# EAGLE library part FT801 (library ftdichip)
IC TFT LCD CONTROLLER 48VQFN
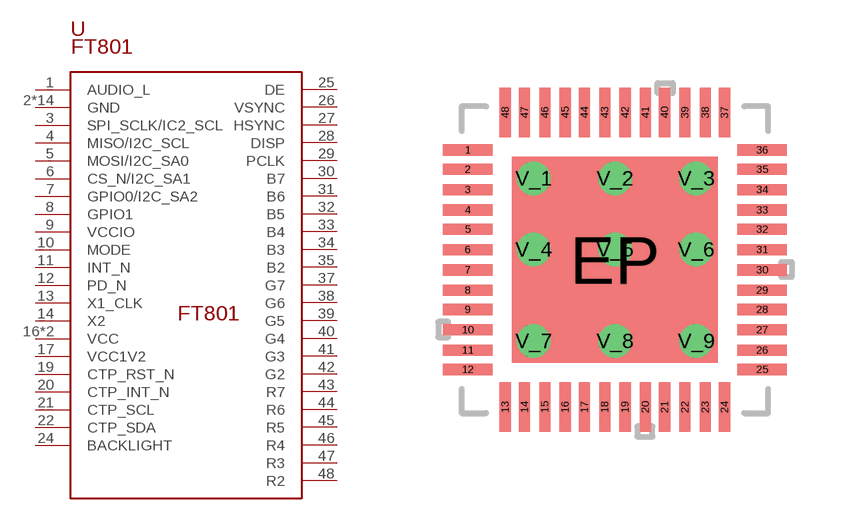
[diagram p4: symbol with the pads of RGZ48_5P15X5P15; footprint RGZ48_5P15X5P15]

Designator prefix -

## FT801  [RGZ48_5P15X5P15]
1  AUDIO_L
2  GND
3  SPI_SCLK/IC2_SCL
4  MISO/I2C_SCL
5  MOSI/I2C_SA0
6  CS_N/I2C_SA1
7  GPIO0/I2C_SA2
8  GPIO1
9  VCCIO
10  MODE
11  INT_N
12  PD_N
13  X1_CLK
14  X2
15  GND
16  VCC
17  VCC1V2
18  VCC
19  CTP_RST_N
20  CTP_INT_N
21  CTP_SCL
22  CTP_SDA
23  GND
24  BACKLIGHT
25  DE
26  VSYNC
27  HSYNC
28  DISP
29  PCLK
30  B7
31  B6
32  B5
33  B4
34  B3
35  B2
36  GND
37  G7
38  G6
39  G5
40  G4
41  G3
42  G2
43  R7
44  R6
45  R5
46  R4
47  R3
48  R2
EP  GND
V_1  GND
V_2  GND
V_3  GND
V_4  GND
V_5  GND
V_6  GND
V_7  GND
V_8  GND
V_9  GND

## Footprint RGZ48_5P15X5P15 (pad centres in mm)
smd 1.245 x 0.279: 1 -3.683,2.743; 2 -3.683,2.261; 3 -3.683,1.753; 4 -3.683,1.245; 5 -3.683,0.762; 6 -3.683,0.254; 7 -3.683,-0.254; 8 -3.683,-0.762; 9 -3.683,-1.245; 10 -3.683,-1.753; 11 -3.683,-2.261; 12 -3.683,-2.743; 25 3.683,-2.743; 26 3.683,-2.261; 27 3.683,-1.753; 28 3.683,-1.245; 29 3.683,-0.762; 30 3.683,-0.254; 31 3.683,0.254; 32 3.683,0.762; 33 3.683,1.245; 34 3.683,1.753; 35 3.683,2.261; 36 3.683,2.743
smd 0.279 x 1.245: 13 -2.743,-3.683; 14 -2.261,-3.683; 15 -1.753,-3.683; 16 -1.245,-3.683; 17 -0.762,-3.683; 18 -0.254,-3.683; 19 0.254,-3.683; 20 0.762,-3.683; 21 1.245,-3.683; 22 1.753,-3.683; 23 2.261,-3.683; 24 2.743,-3.683; 37 2.743,3.683; 38 2.261,3.683; 39 1.753,3.683; 40 1.245,3.683; 41 0.762,3.683; 42 0.254,3.683; 43 -0.254,3.683; 44 -0.762,3.683; 45 -1.245,3.683; 46 -1.753,3.683; 47 -2.261,3.683; 48 -2.743,3.683
smd 5.156 x 5.156: EP 0,0
drill 0.33: V_1 -2.032,2.032; V_2 0,2.032; V_3 2.032,2.032; V_4 -2.032,0.254; V_5 0,0.254; V_6 2.032,0.254; V_7 -2.032,-2.032; V_8 0,-2.032; V_9 2.032,-2.032